# Altium schematic symbol library 74LVC1G07.SchLib: 1 symbol
Pins are listed as number, name and electrical type; pins without a type are passive.

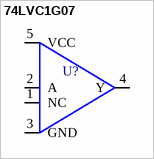
[diagram p0: symbol 74LVC1G07]

## 74LVC1G07
designator U?
SINGLE BUFFER/DRIVER WITH OPEN DRAIN OUTPUT
footprint X2-DFN1410-6 (1.4x1.0mm)
pins: 1 NC, 2 A, 3 GND, 4 Y, 5 VCC